# EAGLE library part IL300 (library anasoft)
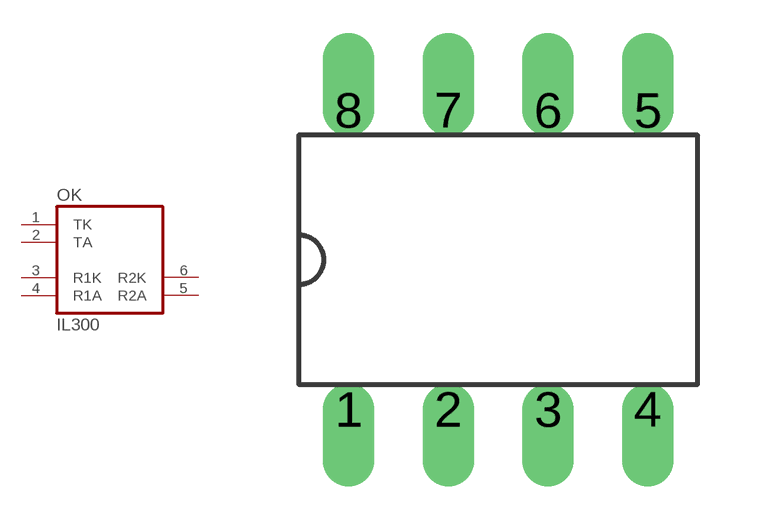
[diagram p5: symbol with the pads of DIL08_OPTO; footprint DIL08_OPTO]

Designator prefix OK

## IL300  [DIL08_OPTO]
1  TK  pas
2  TA  pas
3  R1K  pas
4  R1A  pas
5  R2A  pas
6  R2K  pas

## Footprint DIL08_OPTO (pad centres in mm)
drill 0.8 offset: 1 -3.81,-3.81; 2 -1.27,-3.81; 3 1.27,-3.81; 4 3.81,-3.81; 5 3.81,3.81; 6 1.27,3.81; 7 -1.27,3.81; 8 -3.81,3.81